# Altium footprint library PcbLib1.PcbLib: 1 footprints
Each footprint in its own frame and in the unit in brackets; x right, y up, seen from the top. Pads: shape width x height; smd on the part's side, far side on the other; paste and mask are expansions set on the pad; w line width, h text height; cw(c..) or ccw(c..) is an arc to the next point about the centre after c.
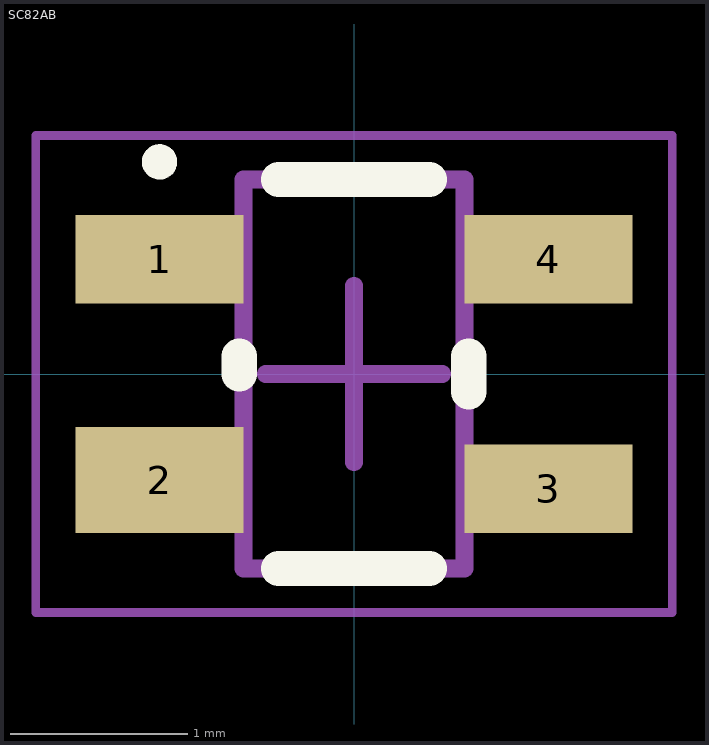
[diagram p0: the footprint, top view; thin cyan lines are the x and y axes]

## SC82AB [mm] "SOT143, 4-Leads, Body 2.00x2.15mm, Pitch 1.30mm, IPC Medium Density"
height 1.1
pads (4):
  rect 0.95x0.5 smd: 1(-1.1,0.65) 3(1.1,-0.65) 4(1.1,0.65)
  rect 0.95x0.6 smd: 2(-1.1,-0.6)
Top Overlay:
  circle w0.1: c-1.1,1.2 r0.05
  lines w0.2: -0.65,0 -0.65,0.1 ; -0.425,-1.1 0.425,-1.1 ; -0.425,1.1 0.425,1.1 ; 0.65,-0.1 0.65,0.1
Mechanical 13:
  lines w0.1: -0.625,-1.1 -0.625,1.1 0.625,1.1 0.625,-1.1 -0.625,-1.1
Mechanical 15:
  lines w0.05: -1.8,-1.35 -1.8,1.35 1.8,1.35 1.8,-1.35 -1.8,-1.35
  lines w0.1: -0.5,0 0.5,0 ; 0,-0.5 0,0.5
3D body: height 1.1, standoff 0.1, extent -0.625,-1.1 0.625,1.1